# EAGLE library part ADUM1201 (library analog-devices)
Dual-Channel Digital Isolators
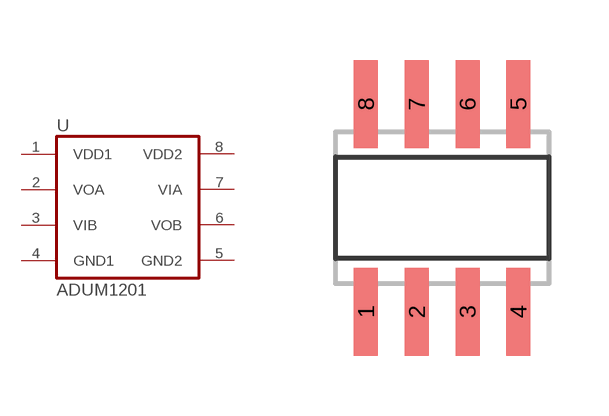
[diagram p35: symbol with the pads of SO08; footprint SO08]

Designator prefix U

## ADUM1201 (P1I: o)  [SO08]
1  VDD1  pwr
2  VOA  out
3  VIB  in
4  GND1  pwr
5  GND2  pwr
6  VOB  out
7  VIA  in
8  VDD2  pwr

## Footprint SO08 (pad centres in mm)
SMALL OUTLINE INTEGRATED CIRCUIT body 3.9 mm/JEDEC MS-012AA
smd 0.6 x 2.2: 1 -1.905,-2.6; 2 -0.635,-2.6; 3 0.635,-2.6; 4 1.905,-2.6; 5 1.905,2.6; 6 0.635,2.6; 7 -0.635,2.6; 8 -1.905,2.6